# EAGLE library part AD5620 (library ld-components)
AD5620/AD5640/AD5660 Single, 12-/14-/16-Bit DAC with 5 ppm/°C On-Chip Reference in SOT-23
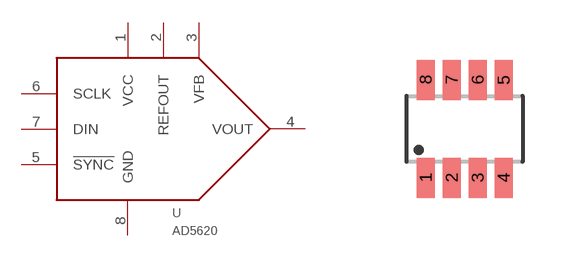
[diagram p11: symbol with the pads of SOT23-8L; footprint SOT23-8L]

Designator prefix -

## AD5620  [SOT23-8L]
1  VCC  pwr
2  REFOUT  out
3  VFB  in
4  VOUT  out
5  !SYNC  in
6  SCLK  in
7  DIN  in
8  GND  pwr

## Footprint SOT23-8L (pad centres in mm)
SC70/SOT23-8 Source: http://datasheets.maxim-ic.com/en/ds/MAX4335-MAX4338.pdf
smd 0.45 x 1: 1 -0.975,-1.225; 2 -0.325,-1.225; 3 0.325,-1.225; 4 0.975,-1.225; 5 0.975,1.225; 6 0.325,1.225; 7 -0.325,1.225; 8 -0.975,1.225